# Altium schematic symbol library APC-817D1.SchLib: 1 symbol
Pins are listed as number, name and electrical type; pins without a type are passive.

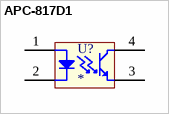
[diagram p0: symbol APC-817D1]

## APC-817D1
designator U?
DIP4, DC Input, Optocoupler
footprint APC-817D1
pins: 1, 2, 3, 4